# Altium schematic symbol library mosfet_n_1g_1s_1d.SchLib: 1 symbol
Pins are listed as number, name and electrical type; pins without a type are passive.

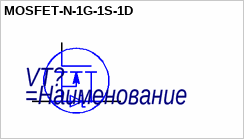
[diagram p0: symbol MOSFET-N-1G-1S-1D]

## MOSFET-N-1G-1S-1D
designator VT?
=Описание
pins: 1 G, 2 S, 3 D